# Altium footprint library PFC-120W-Pcb-Lib.PcbLib: 24 footprints (part 2 of 2)
Each footprint in its own frame and in the unit in brackets; x right, y up, seen from the top. Pads: shape width x height; smd on the part's side, far side on the other; paste and mask are expansions set on the pad; w line width, h text height; cw(c..) or ccw(c..) is an arc to the next point about the centre after c.
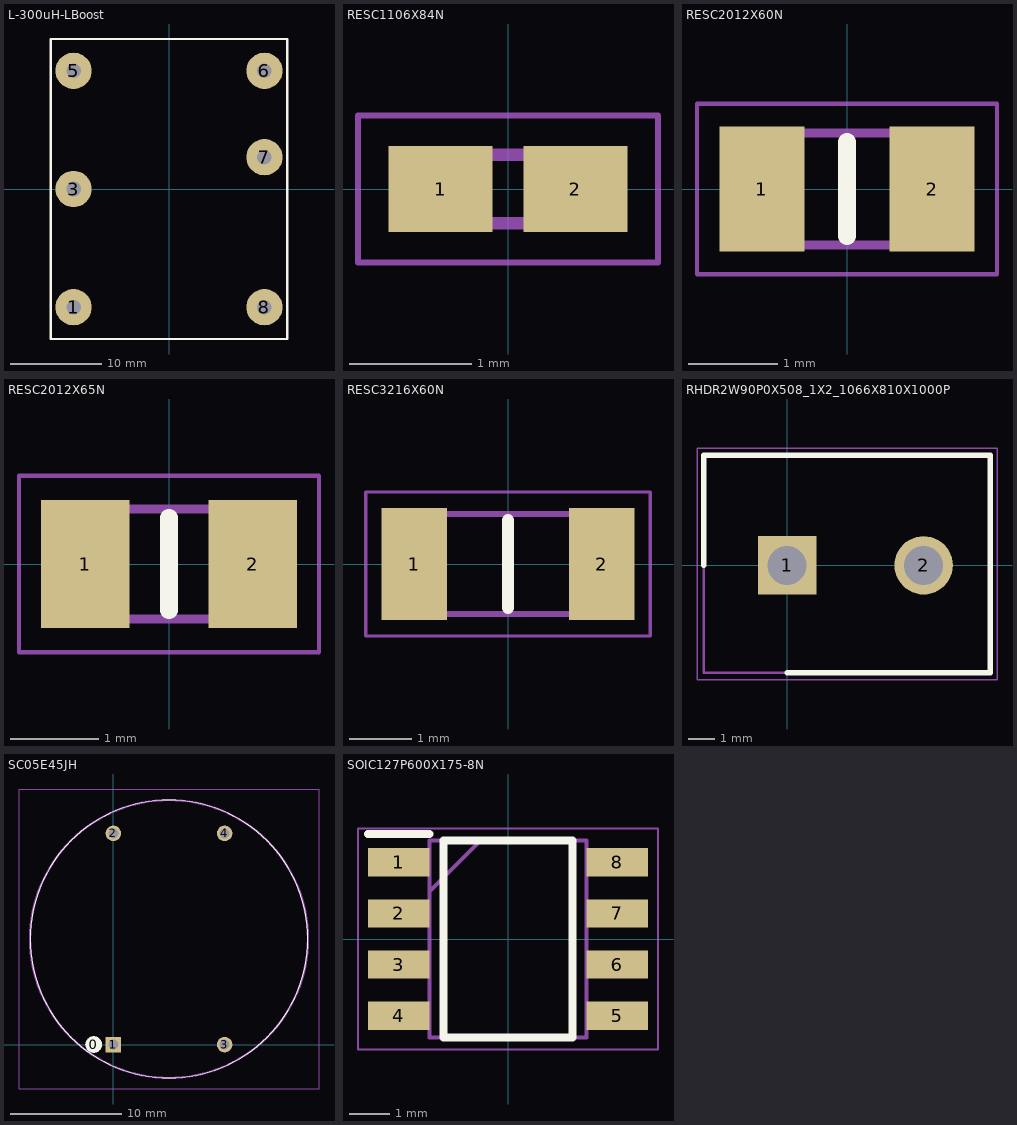
[diagram p1: the footprints below, top view; thin cyan lines are the x and y axes]

## L-300uH-LBoost [mm] "L-300uH-LBoost"
pads (6):
  round 4 hole 1.6: 1(-10.5,-13) 3(-10.5,0) 5(-10.5,13) 6(10.5,13) 7(10.5,3.5) 8(10.5,-13)
Top Overlay:
  lines w0.254: -13,-16.5 13,-16.5 13,16.5 -13,16.5 -13,-16.5
3D body: height 27, standoff 0, extent -12.954,-16.51 12.954,16.51

## RESC1106X84N [mm]
pads (2):
  rect 0.85x0.7 smd: 1(-0.55,0) 2(0.55,0)
Mechanical 13:
  lines w0.1: -0.534,-0.279 -0.534,0.279 0.534,0.279 0.534,-0.279 -0.534,-0.279
Mechanical 15:
  lines w0.05: -1.225,-0.6 -1.225,0.6 1.225,0.6 1.225,-0.6 -1.225,-0.6
3D body "PNM0402E2502BST1.stp": height 0.84, standoff 0, extent -0.533,-0.279 0.533,0.279

## RESC2012X60N [mm]
pads (2):
  rect 0.95x1.4 smd: 1(-0.95,0) 2(0.95,0)
Top Overlay:
  lines w0.2: 0,-0.525 0,0.525
Mechanical 13:
  lines w0.1: -1,-0.625 -1,0.625 1,0.625 1,-0.625 -1,-0.625
Mechanical 15:
  lines w0.05: -1.675,-0.95 -1.675,0.95 1.675,0.95 1.675,-0.95 -1.675,-0.95
3D body "RL0805FR-070R12L.stp": height 0.6, standoff 0, extent -1,-0.625 1,0.625

## RESC2012X65N [mm]
pads (2):
  rect 1x1.45 smd: 1(-0.95,0) 2(0.95,0)
Top Overlay:
  lines w0.2: 0,-0.525 0,0.525
Mechanical 13:
  lines w0.1: -1,-0.625 1,-0.625 1,0.625 -1,0.625 -1,-0.625
Mechanical 15:
  lines w0.05: -1.7,-1 1.7,-1 1.7,1 -1.7,1 -1.7,-1
3D body "CPF0805B100RE1.stp": height 0.65, standoff 0, extent -1,-0.625 1,0.625

## RESC3216X60N [mm]
pads (2):
  rect 1.05x1.8 smd: 1(-1.5,0) 2(1.5,0)
Top Overlay:
  lines w0.2: 0,-0.7 0,0.7
Mechanical 13:
  lines w0.1: -1.575,-0.8 1.575,-0.8 1.575,0.8 -1.575,0.8 -1.575,-0.8
Mechanical 15:
  lines w0.05: -2.275,-1.15 2.275,-1.15 2.275,1.15 -2.275,1.15 -2.275,-1.15
3D body "CRCW12061M50FKEA.stp": height 0.6, standoff 0, extent -1.575,-0.8 1.575,0.8

## RHDR2W90P0X508_1X2_1066X810X1000P [mm]
pads (2):
  rect 2.175x2.175 hole 1.45: 1(0,0)
  round 2.175 hole 1.45: 2(5.08,0)
Top Overlay:
  lines w0.2: -3.1,0 -3.1,4.1 7.56,4.1 7.56,-4 0,-4
Mechanical 13:
  lines w0.1: -3.1,-4 7.56,-4 7.56,4.1 -3.1,4.1 -3.1,-4
Mechanical 15:
  lines w0.05: -3.35,-4.25 7.81,-4.25 7.81,4.35 -3.35,4.35 -3.35,-4.25
3D body "EDZ250_2.stp": height 10, standoff -3.5, extent -2.79,-4.05 7.87,4.05

## SC05E45JH [mm]
pads (5):
  round 1.524 on Top Overlay: 0(-1.778,0)
  rect 1.4x1.4 hole 0.9: 1(0,0)
  round 1.4 hole 0.9: 2(0,19) 3(10,0) 4(10,19)
Top Overlay:
  lines w0.1: -7.5,9.5 ccw(c5,9.5) 17.5,9.5 ccw(c5,9.5) -7.5,9.5
Mechanical 13:
  lines w0.2: -7.5,9.5 ccw(c5,9.5) 17.5,9.5 ccw(c5,9.5) -7.5,9.5
Mechanical 15:
  lines w0.1: -8.5,-4 18.5,-4 18.5,23 -8.5,23 -8.5,-4
3D body "SC-05-E45JH.stp": height 21.1, standoff -5, extent -7.5,-3 17.5,22

## SOIC127P600X175-8N [mm]
pads (8):
  rect 1.525x0.7 smd: 1(-2.712,1.905) 2(-2.712,0.635) 3(-2.712,-0.635) 4(-2.712,-1.905) 5(2.712,-1.905) 6(2.712,-0.635) 7(2.712,0.635) 8(2.712,1.905)
Top Overlay:
  lines w0.2: -3.475,2.605 -1.95,2.605 ; -1.6,-2.45 -1.6,2.45 1.6,2.45 1.6,-2.45 -1.6,-2.45
Mechanical 13:
  lines w0.1: -1.95,1.18 -0.68,2.45 ; -1.95,-2.45 -1.95,2.45 1.95,2.45 1.95,-2.45 -1.95,-2.45
Mechanical 15:
  lines w0.05: -3.725,-2.75 -3.725,2.75 3.725,2.75 3.725,-2.75 -3.725,-2.75
3D body "NCP1608BDR2G.stp": height 1.75, standoff 0, extent -3,-2.45 3,2.45